# Altium footprint library Arturo_PCB.PcbLib: 40 footprints (part 3 of 3)
Each footprint in its own frame and in the unit in brackets; x right, y up, seen from the top. Pads: shape width x height; smd on the part's side, far side on the other; paste and mask are expansions set on the pad; w line width, h text height; cw(c..) or ccw(c..) is an arc to the next point about the centre after c.
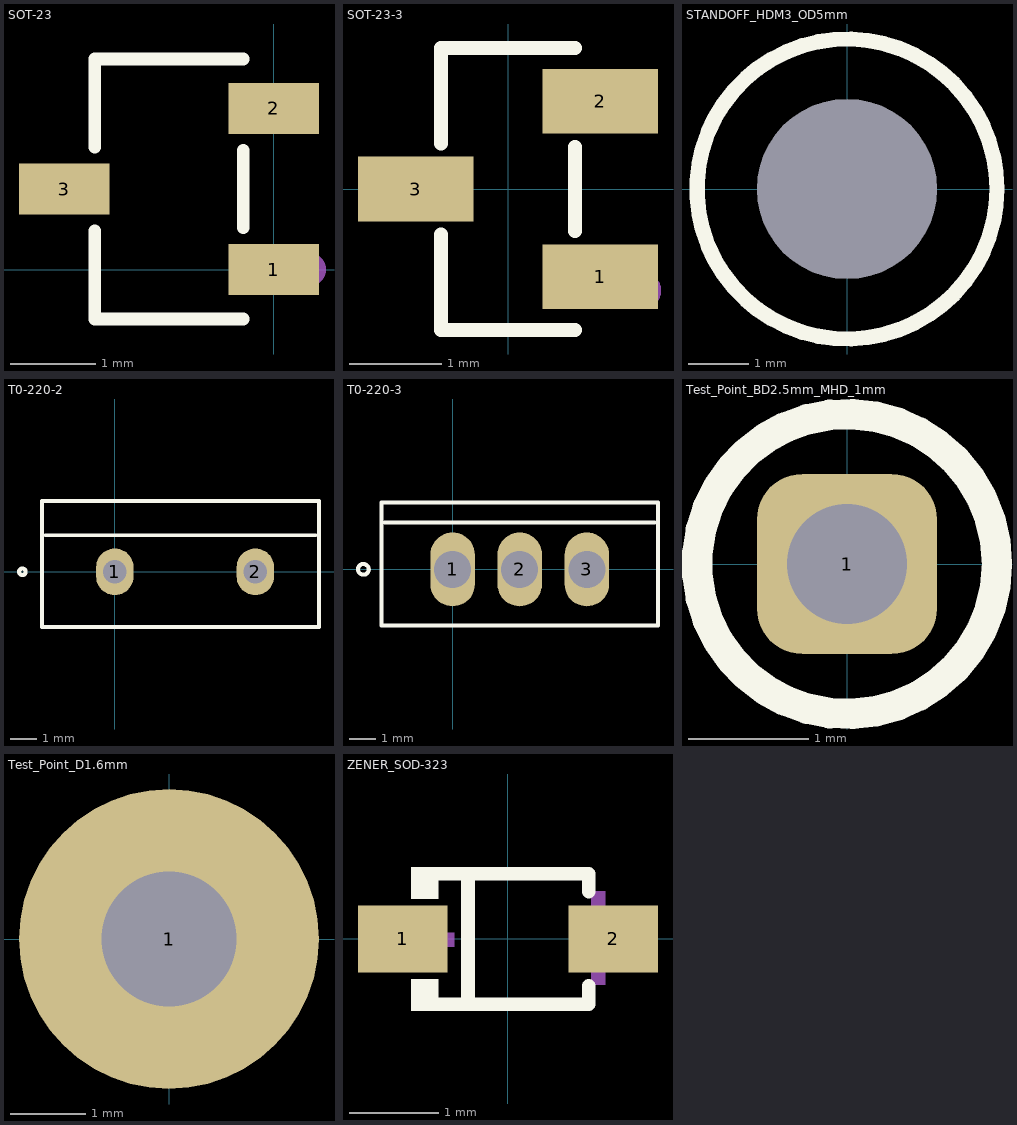
[diagram p2: the footprints below, top view; thin cyan lines are the x and y axes]

## SOT-23 [mm]
pads (3):
  rect 1.07x0.6 smd: 1(0,0) 2(0,1.9) 3(-2.47,0.95)
Top Overlay:
  lines w0.152: -2.111,0.455 -2.111,-0.586 -0.359,-0.586 ; -2.111,1.445 -2.111,2.486 -0.359,2.486 ; -0.359,0.495 -0.359,1.405
Mechanical 15:
  circle w0.2: c0.416,0 r0.1

## SOT-23-3 [mm]
pads (3):
  rect 1.25x0.7 smd: 1(1,-0.95) 2(1,0.95) 3(-1,0)
Top Overlay:
  lines w0.152: -0.726,-0.495 -0.726,-1.526 0.726,-1.526 ; -0.726,0.495 -0.726,1.526 0.726,1.526 ; 0.726,-0.455 0.726,0.455
Mechanical 15:
  circle w0.2: c1.46,-1.1 r0.1

## STANDOFF_HDM3_OD5mm [mm]
pads (1):
  round 0 hole 3: 50(0,0)
Top Overlay:
  circle w0.254: c0,0 r2.5

## T0-220-2 [mm]
pads (2):
  oval 1.44x1.8 hole 0.9: 1(0,0) 2(5.4,0)
Top Overlay:
  circle w0.152: c-3.556,0 r0.127
  lines w0.152: -2.669,1.405 7.719,1.405 ; -2.796,-2.126 7.846,-2.126 7.846,2.726 -2.796,2.726 -2.796,-2.126
3D body "TO_H1202D_STM.step": height 15.75, standoff -5.08, extent -2.679,-1.981 7.709,2.617

## T0-220-3 [mm]
pads (3):
  oval 1.68x2.8 hole 1.4: 1(0,0) 2(2.54,0) 3(5.08,0)
Top Overlay:
  circle w0.152: c-3.378,0 r0.203
  lines w0.152: -2.565,1.765 7.645,1.765 ; -2.692,-2.121 7.772,-2.121 7.772,2.527 -2.692,2.527 -2.692,-2.121
3D body "PG-TO220-3-1_INF.step": height 17.3, standoff -5.89, extent -2.565,-1.994 7.645,2.4

## Test_Point_BD2.5mm_MHD_1mm [mm]
pads (1):
  rrect50% 1.5x1.5 hole 1: 1(0,0)
Top Overlay:
  circle w0.254: c0,0 r1.25

## Test_Point_D1.6mm [mm]
pads (1):
  round 4 hole 1.8: 1(0,0)

## ZENER_SOD-323 [mm]
pads (2):
  rect 1x0.75 smd: 1(-1.173,0) 2(1.173,0)
Top Overlay:
  region: -0.775,-0.802 -0.775,-0.45 -1.08,-0.45 -1.08,-0.802
  region: -0.775,0.802 -0.775,0.45 -1.08,0.45 -1.08,0.802
  lines w0.152: -0.851,-0.726 0.901,-0.726 0.901,-0.52 ; -0.851,0.726 0.901,0.726 0.901,0.53 ; -0.447,-0.726 -0.447,0.726
Mechanical 15:
  region: 1.083,0.53 1.083,-0.51 0.927,-0.51 0.927,0.53
  region: 1.315,0.09 1.315,-0.066 0.691,-0.066 0.691,0.09
  region: -1.225,0.07 -1.225,-0.086 -0.601,-0.086 -0.601,0.07
3D body "SOD323.stp": height 1.1, standoff -0.01, extent -1.259,-0.65 1.259,0.65